# EAGLE library part MEC-SWITCH-LED (library jason-test)
MEC switch with LED
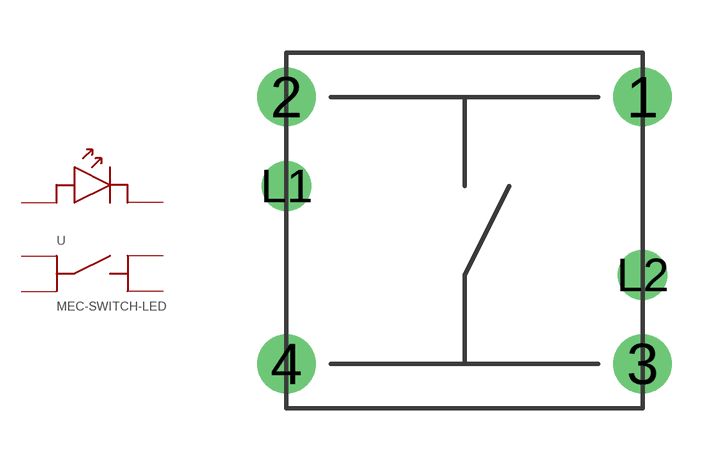
[diagram p42: symbol with the pads of MEC-PTH-LED; footprint MEC-PTH-LED]

Designator prefix -

## MEC-SWITCH-LED  [MEC-PTH-LED]
1  A1
2  A2
3  B1
4  B2
L1  L1
L2  L2

## Footprint MEC-PTH-LED (pad centres in mm)
drill 1 pad 1.676 round: 1 5.08,3.81; 2 -5.08,3.81; 3 5.08,-3.81; 4 -5.08,-3.81
drill 0.8 pad 1.422 round: L1 -5.08,1.27; L2 5.08,-1.27